# Altium integrated library Linear Technology PMIC-Switching Reg LTC1174-LTC3901.IntLib: 2647 symbols (part 218 of 310)
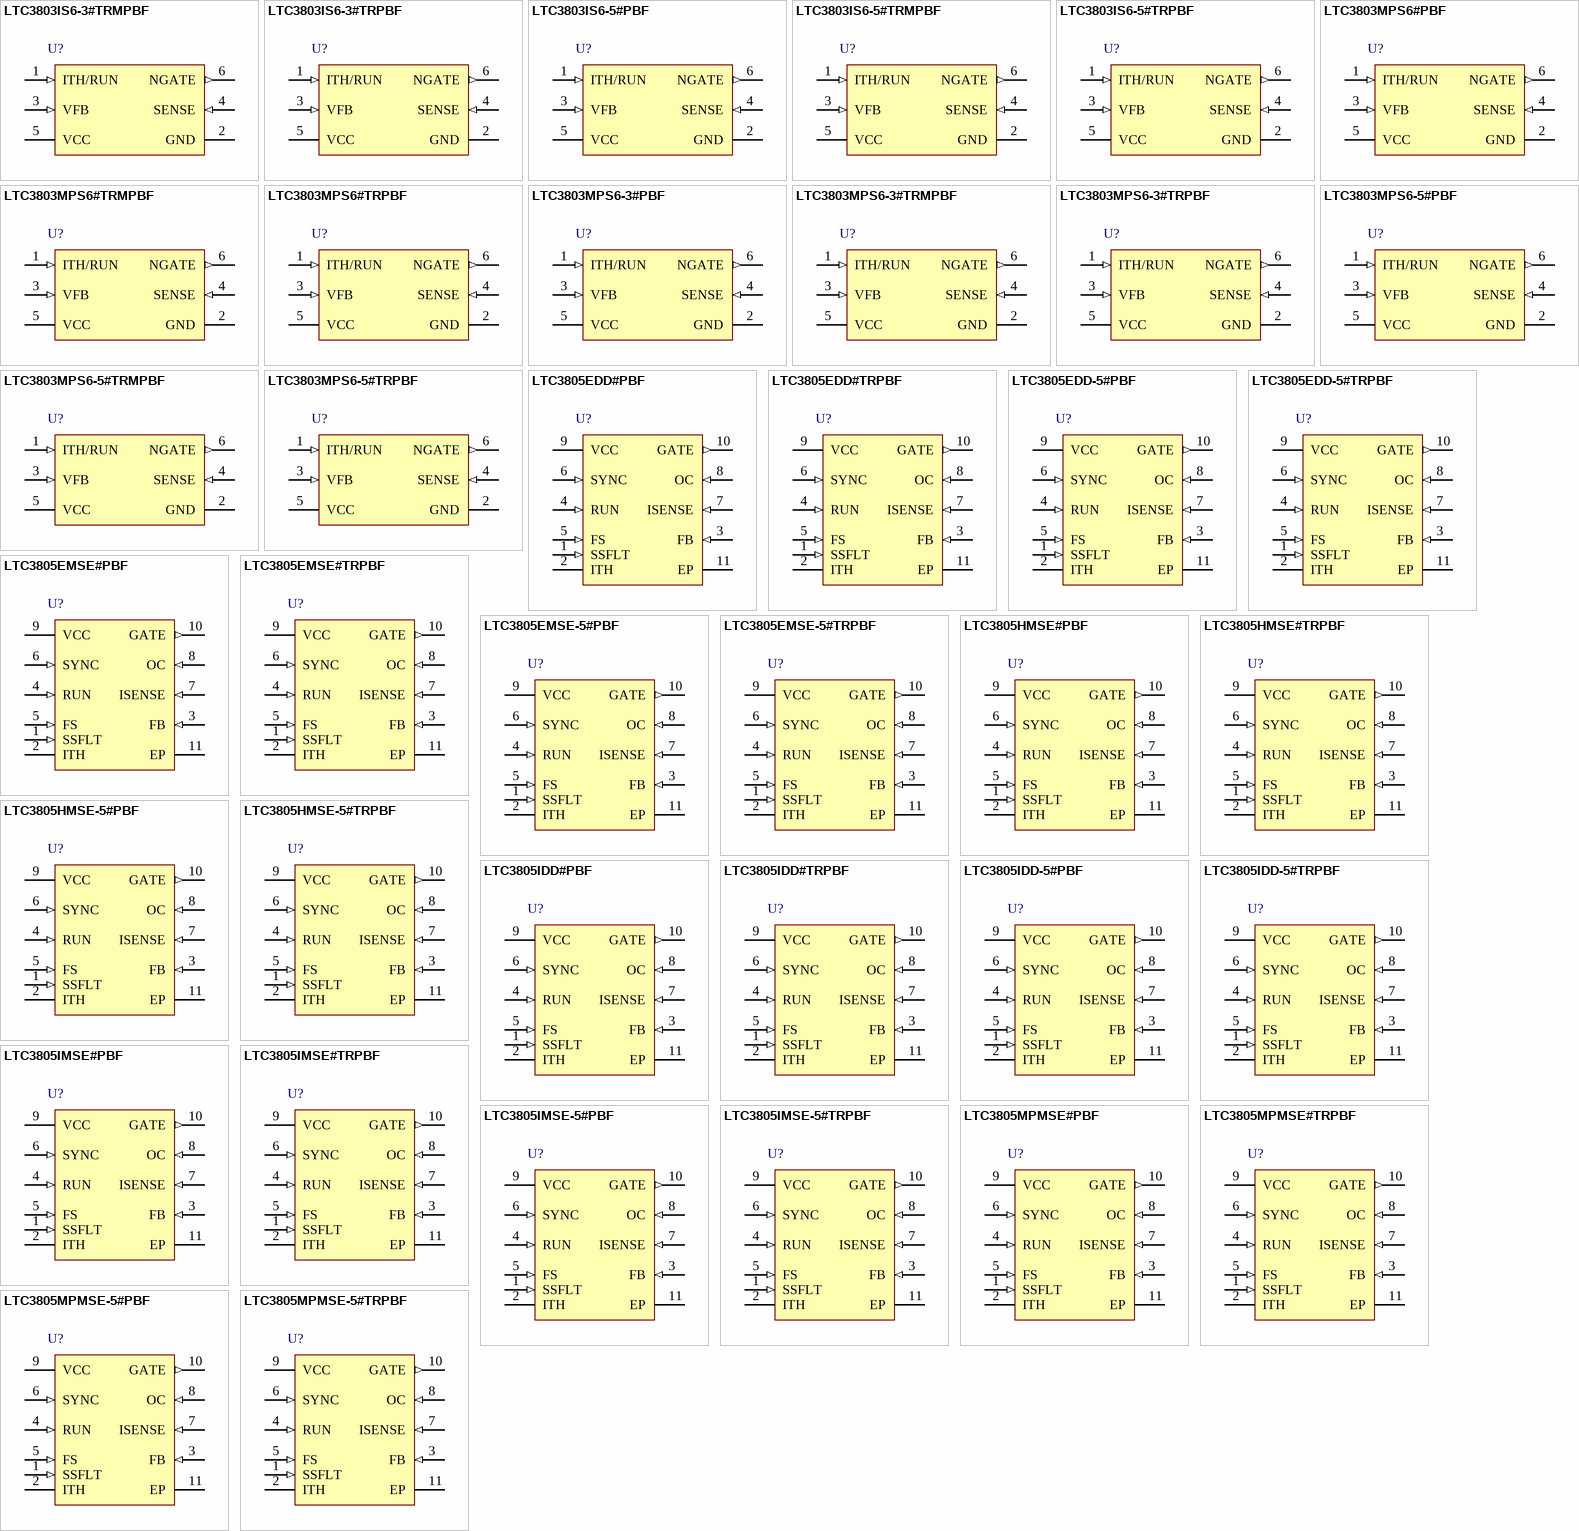
[diagram p243: symbols LTC3803IS6-3#TRMPBF to LTC3805MPMSE-5#TRPBF]

## LTC3805MPMSE-5#TRPBF
designator U?
Adjustable Frequency Current Mode Flyback / Boost / SEPIC DC/DC Controller, 10-pin SOP (MSE-10-EDP), -55 to 150 degC, Pb-Free, Tape and Reel; Manufacturer: Linear Technology; PartNumber: LTC3805MPMSE-5#TRPBF; Number of Outputs: 1; PackageReference: MSE-10; PackageDescription: 10-Pin Plastic MSOP, Exposed Die Pad, Body 3 x 3 mm, Pitch 0.5 mm; Supplier 1: Digi-Key; Supplier Part Number 1: LTC3805MPMSE-5#TRPBF-ND; RoHS: TRUE
footprint LT-MSE-10-EDP-2060x1830TP_N (SOP, 10-Leads, Body 3.1x3.1mm, Pitch 0.5mm, Thermal Pad 2.17x1.94mm, IPC Medium Density)
footprint LT-MSE-10-EDP-2060x1830TP_L (SOP, 10-Leads, Body 3.1x3.1mm, Pitch 0.5mm, Thermal Pad 2.17x1.94mm, IPC High Density)
footprint LT-MSE-10-EDP-2060x1830TP_M (SOP, 10-Leads, Body 3.1x3.1mm, Pitch 0.5mm, Thermal Pad 2.17x1.94mm, IPC Low Density)
pins: 1 SSFLT (in) "Soft-Start Pin. A capacitor placed from this pin to GND (Exposed Pad) controls the rate of rise of converter output voltage during start-up. This capacitor is also used for time out after a fault prior to restart.", 2 ITH "Error Amplifier Compensation Point. Normal operating voltage range is clamped between 0.7V and 1.9V.", 3 FB (in) "Receives the feedback voltage from an external resistor divider across the output.", 4 RUN (in) "An external resistor divider connects this pin to VIN and sets the thresholds for converter operation.", 5 FS (in) "A resistor connected from this pin to ground sets the frequency of operation.", 6 SYNC (in) "Input to synchronize the oscillator to an external source.", 7 ISENSE (in) "Performs two functions: for current mode control, it monitors the switch current, using the voltage across an external current sense resistor. Pin 7 also injects a current ramp that develops slope compensation voltage across (See Datasheet)", 8 OC (in) "Overcurrent Pin. Connect this pin to the external switch current sense resistor. An additional resistor programs the overcurrent trip level.", 9 VCC (power) "Supply Pin. A capacitor must closely decouple VCC to GND (Exposed Pad).", 10 GATE (out) "Gate Drive for the External N-Channel MOSFET. This pin swings from GND to VCC.", 11 EP (power) "Ground. A capacitor must closely decouple GND to VCC (Pin 9). The exposed pad must be soldered to electrical ground on PCB for electrical contact and rated thermal performance."

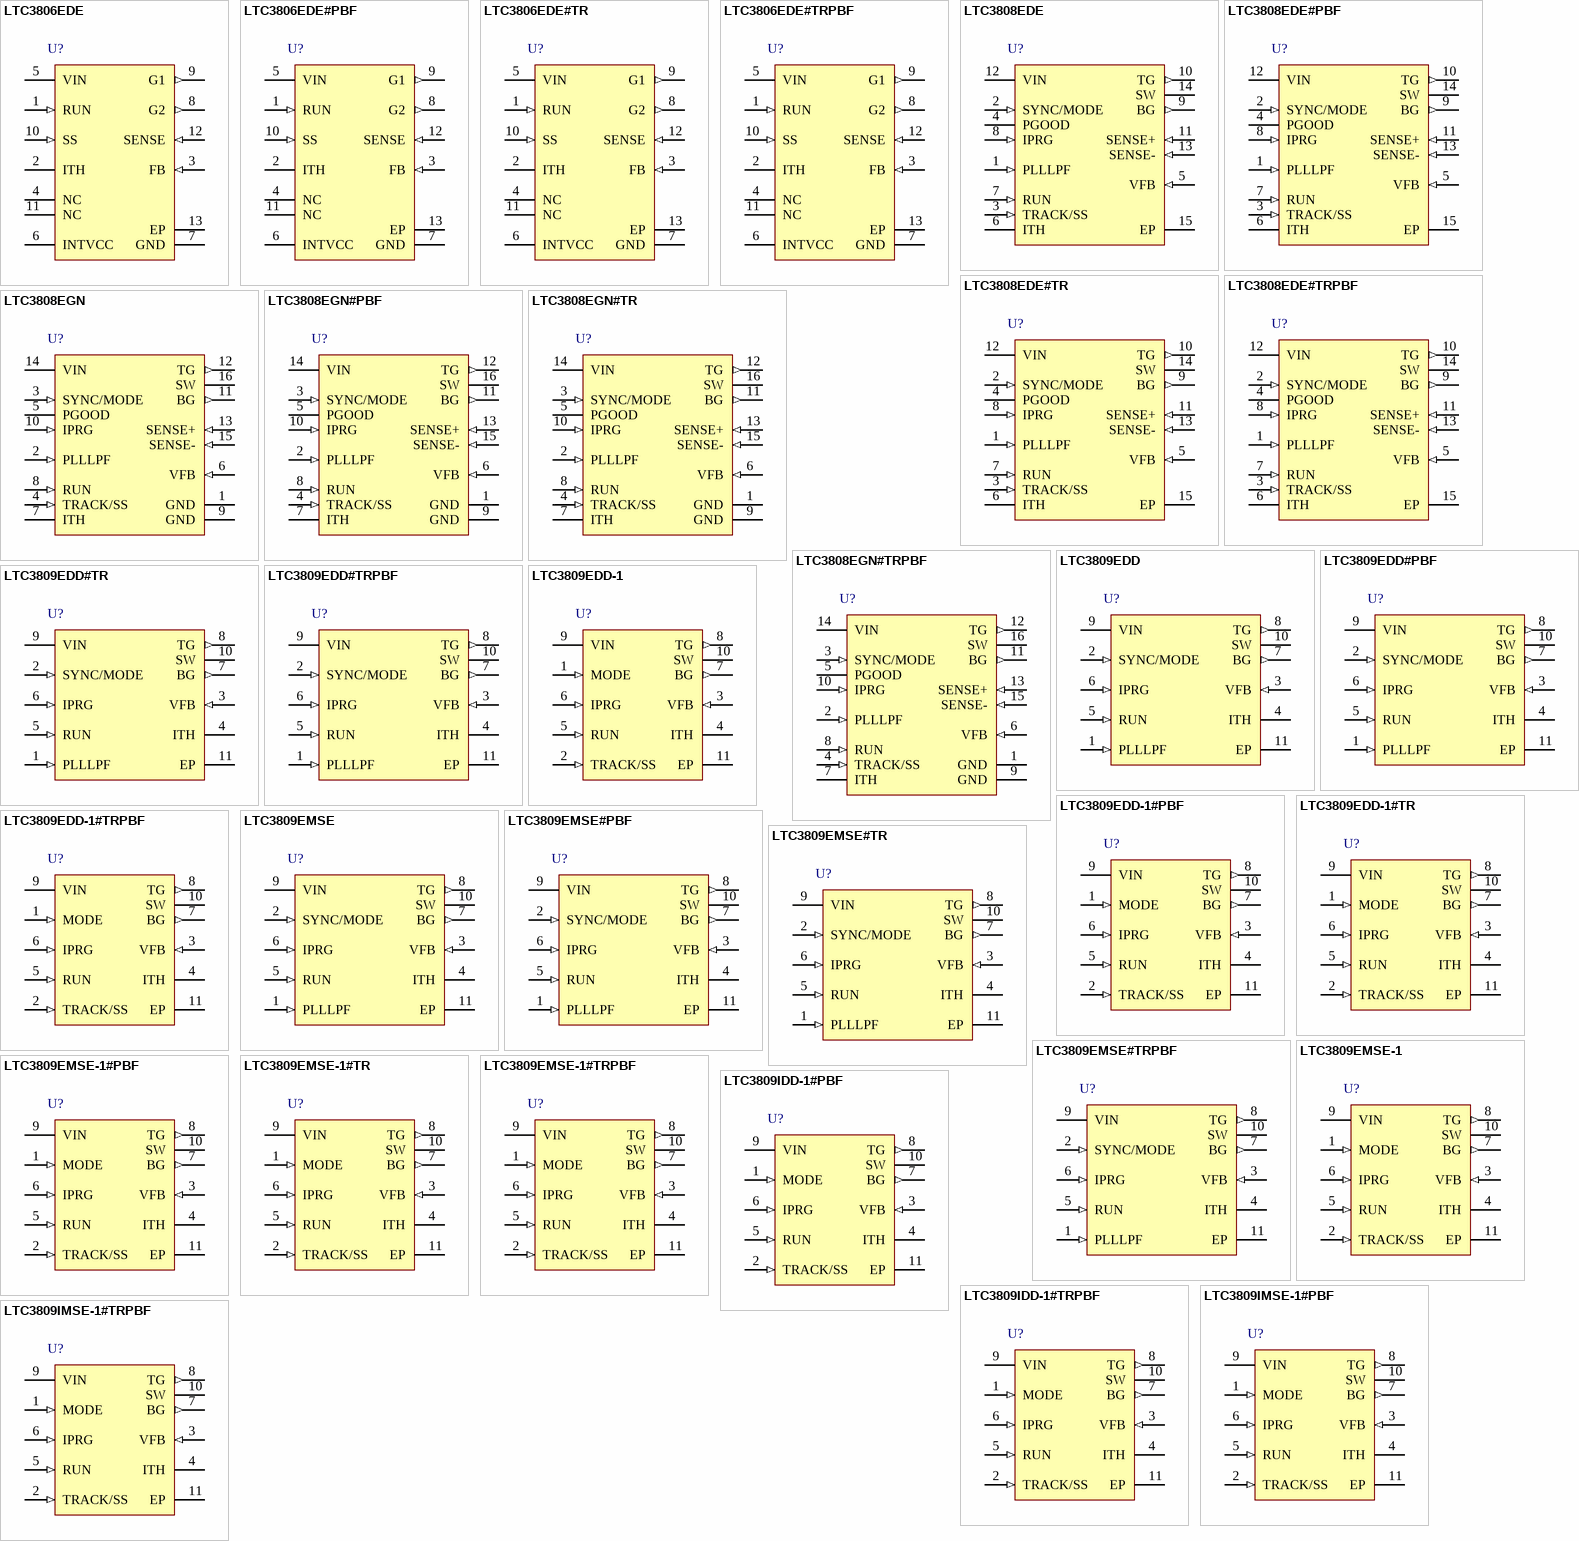
[diagram p77: symbols LTC3806EDE to LTC3809IMSE-1#TRPBF]

## LTC3806EDE
designator U?
Synchronous Flyback DC/DC Controller Min, 12-pin SON (DE-UE-12), -40 to 85 degC; Manufacturer: Linear Technology; PartNumber: LTC3806EDE; Number of Outputs: 1; PackageReference: DE-UE-12; PackageDescription: 12-Pin Plastic DFN, Body 4 x 3 mm, Pitch 0.5 mm; Supplier 1: Digi-Key; Supplier Part Number 1: LTC3806EDE-ND; RoHS: FALSE; Code_JEDEC: MO-229
footprint LT-DE-UE-12_V (SON, 12-Leads, Body 4x3mm, Pitch 0.5mm, Thermal Pad 3.3x1.7mm)
pins: 1 RUN (in) "The RUN pin provides the user with an accurate means for sensing the input voltage and programming the start-up threshold for the converter. The falling RUN pin threshold is nominally 1.14V and the comparator has 91mV of (See Datasheet)", 2 ITH "Error Amplifier Compensation Pin. The current comparator input threshold increases with this control voltage. Nominal voltage range for this pin is 0V to 1.4V.", 3 FB (in) "Receives the feedback voltage from the external resistor divider across the main output. Nominal voltage for this pin in regulation is 1.230V.", 4 NC "Do Not Connect.", 5 VIN (power) "Main Supply Pin. Must be closely decoupled to ground.", 6 INTVCC (power) "The Internal 6.9V Regulator Output. The gate drivers and control circuits are powered from this voltage. Decouple this pin locally to the IC ground with a minimum 4.7uF low ESR ceramic capacitor.", 7 GND (power) "Ground Pins. Exposed pad must be tied to electrical ground.", 8 G2 (out) "Secondary-Side Gate Driver Output. This pin drives the gates of all of the synchronous rectifiers.", 9 G1 (out) "Primary-Side Gate Driver Output.", 10 SS (in) "Soft-Start. A capacitor between this pin and ground sets the rate at which the current comparator input threshold may increase when the IC is initially enabled. Increasing the size of the capacitor slows down the ramp rate (See Datasheet)", 11 NC "Do Not Connect.", 12 SENSE (in) "Current Sense Input for the Control Loop. Connect this pin to the current sense resistor in the source of the primary side power MOSFET. Internal leading edge blanking is provided.", 13 EP (power) "Ground Pins. Exposed pad must be tied to electrical ground."

## LTC3806EDE#PBF
designator U?
Synchronous Flyback DC/DC Controller Min, 12-pin SON (DE-UE-12), -40 to 85 degC, Pb-Free; Manufacturer: Linear Technology; PartNumber: LTC3806EDE#PBF; Number of Outputs: 1; PackageReference: DE-UE-12; PackageDescription: 12-Pin Plastic DFN, Body 4 x 3 mm, Pitch 0.5 mm; Supplier 1: Digi-Key; Supplier Part Number 1: LTC3806EDE#PBF-ND; RoHS: TRUE; Code_JEDEC: MO-229
footprint LT-DE-UE-12_V (SON, 12-Leads, Body 4x3mm, Pitch 0.5mm, Thermal Pad 3.3x1.7mm)
pins: 1 RUN (in) "The RUN pin provides the user with an accurate means for sensing the input voltage and programming the start-up threshold for the converter. The falling RUN pin threshold is nominally 1.14V and the comparator has 91mV of (See Datasheet)", 2 ITH "Error Amplifier Compensation Pin. The current comparator input threshold increases with this control voltage. Nominal voltage range for this pin is 0V to 1.4V.", 3 FB (in) "Receives the feedback voltage from the external resistor divider across the main output. Nominal voltage for this pin in regulation is 1.230V.", 4 NC "Do Not Connect.", 5 VIN (power) "Main Supply Pin. Must be closely decoupled to ground.", 6 INTVCC (power) "The Internal 6.9V Regulator Output. The gate drivers and control circuits are powered from this voltage. Decouple this pin locally to the IC ground with a minimum 4.7uF low ESR ceramic capacitor.", 7 GND (power) "Ground Pins. Exposed pad must be tied to electrical ground.", 8 G2 (out) "Secondary-Side Gate Driver Output. This pin drives the gates of all of the synchronous rectifiers.", 9 G1 (out) "Primary-Side Gate Driver Output.", 10 SS (in) "Soft-Start. A capacitor between this pin and ground sets the rate at which the current comparator input threshold may increase when the IC is initially enabled. Increasing the size of the capacitor slows down the ramp rate (See Datasheet)", 11 NC "Do Not Connect.", 12 SENSE (in) "Current Sense Input for the Control Loop. Connect this pin to the current sense resistor in the source of the primary side power MOSFET. Internal leading edge blanking is provided.", 13 EP (power) "Ground Pins. Exposed pad must be tied to electrical ground."

## LTC3806EDE#TR
designator U?
Synchronous Flyback DC/DC Controller Min, 12-pin SON (DE-UE-12), -40 to 85 degC, Tape and Reel; Manufacturer: Linear Technology; PartNumber: LTC3806EDE#TR; Number of Outputs: 1; PackageReference: DE-UE-12; PackageDescription: 12-Pin Plastic DFN, Body 4 x 3 mm, Pitch 0.5 mm; Supplier 1: Digi-Key; Supplier Part Number 1: LTC3806EDE#TR-ND; RoHS: FALSE; Code_JEDEC: MO-229
footprint LT-DE-UE-12_V (SON, 12-Leads, Body 4x3mm, Pitch 0.5mm, Thermal Pad 3.3x1.7mm)
pins: 1 RUN (in) "The RUN pin provides the user with an accurate means for sensing the input voltage and programming the start-up threshold for the converter. The falling RUN pin threshold is nominally 1.14V and the comparator has 91mV of (See Datasheet)", 2 ITH "Error Amplifier Compensation Pin. The current comparator input threshold increases with this control voltage. Nominal voltage range for this pin is 0V to 1.4V.", 3 FB (in) "Receives the feedback voltage from the external resistor divider across the main output. Nominal voltage for this pin in regulation is 1.230V.", 4 NC "Do Not Connect.", 5 VIN (power) "Main Supply Pin. Must be closely decoupled to ground.", 6 INTVCC (power) "The Internal 6.9V Regulator Output. The gate drivers and control circuits are powered from this voltage. Decouple this pin locally to the IC ground with a minimum 4.7uF low ESR ceramic capacitor.", 7 GND (power) "Ground Pins. Exposed pad must be tied to electrical ground.", 8 G2 (out) "Secondary-Side Gate Driver Output. This pin drives the gates of all of the synchronous rectifiers.", 9 G1 (out) "Primary-Side Gate Driver Output.", 10 SS (in) "Soft-Start. A capacitor between this pin and ground sets the rate at which the current comparator input threshold may increase when the IC is initially enabled. Increasing the size of the capacitor slows down the ramp rate (See Datasheet)", 11 NC "Do Not Connect.", 12 SENSE (in) "Current Sense Input for the Control Loop. Connect this pin to the current sense resistor in the source of the primary side power MOSFET. Internal leading edge blanking is provided.", 13 EP (power) "Ground Pins. Exposed pad must be tied to electrical ground."

## LTC3806EDE#TRPBF
designator U?
Synchronous Flyback DC/DC Controller Min, 12-pin SON (DE-UE-12), -40 to 85 degC, Pb-Free, Tape and Reel; Manufacturer: Linear Technology; PartNumber: LTC3806EDE#TRPBF; Number of Outputs: 1; PackageReference: DE-UE-12; PackageDescription: 12-Pin Plastic DFN, Body 4 x 3 mm, Pitch 0.5 mm; Supplier 1: Digi-Key; Supplier Part Number 1: LTC3806EDE#TRPBF-ND; RoHS: TRUE; Code_JEDEC: MO-229
footprint LT-DE-UE-12_V (SON, 12-Leads, Body 4x3mm, Pitch 0.5mm, Thermal Pad 3.3x1.7mm)
pins: 1 RUN (in) "The RUN pin provides the user with an accurate means for sensing the input voltage and programming the start-up threshold for the converter. The falling RUN pin threshold is nominally 1.14V and the comparator has 91mV of (See Datasheet)", 2 ITH "Error Amplifier Compensation Pin. The current comparator input threshold increases with this control voltage. Nominal voltage range for this pin is 0V to 1.4V.", 3 FB (in) "Receives the feedback voltage from the external resistor divider across the main output. Nominal voltage for this pin in regulation is 1.230V.", 4 NC "Do Not Connect.", 5 VIN (power) "Main Supply Pin. Must be closely decoupled to ground.", 6 INTVCC (power) "The Internal 6.9V Regulator Output. The gate drivers and control circuits are powered from this voltage. Decouple this pin locally to the IC ground with a minimum 4.7uF low ESR ceramic capacitor.", 7 GND (power) "Ground Pins. Exposed pad must be tied to electrical ground.", 8 G2 (out) "Secondary-Side Gate Driver Output. This pin drives the gates of all of the synchronous rectifiers.", 9 G1 (out) "Primary-Side Gate Driver Output.", 10 SS (in) "Soft-Start. A capacitor between this pin and ground sets the rate at which the current comparator input threshold may increase when the IC is initially enabled. Increasing the size of the capacitor slows down the ramp rate (See Datasheet)", 11 NC "Do Not Connect.", 12 SENSE (in) "Current Sense Input for the Control Loop. Connect this pin to the current sense resistor in the source of the primary side power MOSFET. Internal leading edge blanking is provided.", 13 EP (power) "Ground Pins. Exposed pad must be tied to electrical ground."

## LTC3808EDE
designator U?
No Rsense, Low EMI, Synchronous DC/DC Controller with Output Tracking, 14-pin SON (DE-14), -40 to 85 degC; Manufacturer: Linear Technology; PartNumber: LTC3808EDE; Number of Outputs: 1; PackageReference: DE-14; PackageDescription: 14-Pin Plastic DFN, Body 4 x 3 mm, Pitch 0.5 mm; RoHS: FALSE; Code_JEDEC: MO-229
footprint LT-DE-14_V (SON, 14-Leads, Body 4x3mm, Pitch 0.5mm, Thermal Pad 3.3x1.7mm)
pins: 1 PLLLPF (in) "Frequency Set/PLL Lowpass Filter. When synchronizing to an external clock, this pin serves as the low pass filter point for the phase-locked loop. Normally, a series RC is connected between this pin and ground.", 2 SYNC/MODE (in) "This pin performs four functions: 1) auxiliary winding feedback input, 2) external clock synchronization input for phase-locked loop, 3) Burst Mode, pulse skipping or forced continuous mode select, and 4) enable spread (See Datasheet)", 3 TRACK/SS (in) "Tracking Input for the Controller or Optional External Soft-Start Input. This pin allows the start-up of VOUT to “track” the external voltage at this pin using an external resistor divider. Tying this pin to VIN all(See Datasheet)", 4 PGOOD (oc) "Power Good Output Voltage Monitor Open-Drain Logic Output. This pin is pulled to ground when the voltage on the feedback pin VFB is not within +/-13.3% of its nominal set point.", 5 VFB (in) "Feedback Pin. This pin receives the remotely sensed feedback voltage for the controller from an external resistor divider across the output.", 6 ITH "Current Threshold and Error Amplifier Compensation Point. Nominal operating range on this pin is from 0.7V to 2V. The voltage on this pin determines the threshold of the main current comparator.", 7 RUN (in) "Run Control Input. Forcing this pin below 1.1V shuts down the chip. Driving this pin to VIN or releasing this pin enables the chip to start-up either by tracking the external voltage at the TRACK/SS pin or with the (See Datasheet)", 8 IPRG (in) "Three-State Pin to Select Maximum Peak Sense Voltage Threshold. This pin selects the maximum allowed voltage drop between the SENSE+ and SENSE- or SW pins (i.e., the maximum allowed drop across the sense resistor or the (See Datasheet)", 9 BG (out) "Bottom (NMOS) Gate Drive Output. This pin drives the gate of the external N-channel MOSFET. This pin has an output swing from GND to SENSE+.", 10 TG (out) "Top (PMOS) Gate Drive Output. This pin drives the gate of the external P-channel MOSFET. This pin has an output swing from GND to SENSE+.", 11 SENSE+ (in) "Positive Input to Differential Current Comparator. Also powers the gate drivers. Normally connected to the source of the external P-channel MOSFET when the sense resistor is not used. Otherwise, it is connected to the sense (See Datasheet)", 12 VIN (power) "Chip Signal Power Supply. This pin powers the entire chip except for the gate drivers. Externally filtering this pin with a lowpass RC network (e.g., R = 10ohm, C = 1uF) is suggested to minimize noise pickup, especially in (See Datasheet)", 13 SENSE- (in) "Negative Input to Differential Current Comparator. Normally is connected to the SW pin when the sense resistor is not used. When using a current sense resistor, connect the resistor between SENSE+ and SENSE- and connect the (See Datasheet)", 14 SW "Switch Node Connection to Inductor. This pin is also an input to the reverse current comparator", 15 EP (power) "The exposed pad (Pin 15 in DFN package) must be soldered to the PCB ground."

## LTC3808EDE#PBF
designator U?
No Rsense, Low EMI, Synchronous DC/DC Controller with Output Tracking, 14-pin SON (DE-14), -40 to 85 degC, Pb-Free; Manufacturer: Linear Technology; PartNumber: LTC3808EDE#PBF; Number of Outputs: 1; PackageReference: DE-14; PackageDescription: 14-Pin Plastic DFN, Body 4 x 3 mm, Pitch 0.5 mm; Supplier 1: Digi-Key; Supplier Part Number 1: LTC3808EDE#PBF-ND; RoHS: TRUE; Code_JEDEC: MO-229
footprint LT-DE-14_V (SON, 14-Leads, Body 4x3mm, Pitch 0.5mm, Thermal Pad 3.3x1.7mm)
pins: 1 PLLLPF (in) "Frequency Set/PLL Lowpass Filter. When synchronizing to an external clock, this pin serves as the low pass filter point for the phase-locked loop. Normally, a series RC is connected between this pin and ground.", 2 SYNC/MODE (in) "This pin performs four functions: 1) auxiliary winding feedback input, 2) external clock synchronization input for phase-locked loop, 3) Burst Mode, pulse skipping or forced continuous mode select, and 4) enable spread (See Datasheet)", 3 TRACK/SS (in) "Tracking Input for the Controller or Optional External Soft-Start Input. This pin allows the start-up of VOUT to “track” the external voltage at this pin using an external resistor divider. Tying this pin to VIN all(See Datasheet)", 4 PGOOD (oc) "Power Good Output Voltage Monitor Open-Drain Logic Output. This pin is pulled to ground when the voltage on the feedback pin VFB is not within +/-13.3% of its nominal set point.", 5 VFB (in) "Feedback Pin. This pin receives the remotely sensed feedback voltage for the controller from an external resistor divider across the output.", 6 ITH "Current Threshold and Error Amplifier Compensation Point. Nominal operating range on this pin is from 0.7V to 2V. The voltage on this pin determines the threshold of the main current comparator.", 7 RUN (in) "Run Control Input. Forcing this pin below 1.1V shuts down the chip. Driving this pin to VIN or releasing this pin enables the chip to start-up either by tracking the external voltage at the TRACK/SS pin or with the (See Datasheet)", 8 IPRG (in) "Three-State Pin to Select Maximum Peak Sense Voltage Threshold. This pin selects the maximum allowed voltage drop between the SENSE+ and SENSE- or SW pins (i.e., the maximum allowed drop across the sense resistor or the (See Datasheet)", 9 BG (out) "Bottom (NMOS) Gate Drive Output. This pin drives the gate of the external N-channel MOSFET. This pin has an output swing from GND to SENSE+.", 10 TG (out) "Top (PMOS) Gate Drive Output. This pin drives the gate of the external P-channel MOSFET. This pin has an output swing from GND to SENSE+.", 11 SENSE+ (in) "Positive Input to Differential Current Comparator. Also powers the gate drivers. Normally connected to the source of the external P-channel MOSFET when the sense resistor is not used. Otherwise, it is connected to the sense (See Datasheet)", 12 VIN (power) "Chip Signal Power Supply. This pin powers the entire chip except for the gate drivers. Externally filtering this pin with a lowpass RC network (e.g., R = 10ohm, C = 1uF) is suggested to minimize noise pickup, especially in (See Datasheet)", 13 SENSE- (in) "Negative Input to Differential Current Comparator. Normally is connected to the SW pin when the sense resistor is not used. When using a current sense resistor, connect the resistor between SENSE+ and SENSE- and connect the (See Datasheet)", 14 SW "Switch Node Connection to Inductor. This pin is also an input to the reverse current comparator", 15 EP (power) "The exposed pad (Pin 15 in DFN package) must be soldered to the PCB ground."

## LTC3808EDE#TR
designator U?
No Rsense, Low EMI, Synchronous DC/DC Controller with Output Tracking, 14-pin SON (DE-14), -40 to 85 degC, Tape and Reel; Manufacturer: Linear Technology; PartNumber: LTC3808EDE#TR; Number of Outputs: 1; PackageReference: DE-14; PackageDescription: 14-Pin Plastic DFN, Body 4 x 3 mm, Pitch 0.5 mm; RoHS: FALSE; Code_JEDEC: MO-229
footprint LT-DE-14_V (SON, 14-Leads, Body 4x3mm, Pitch 0.5mm, Thermal Pad 3.3x1.7mm)
pins: 1 PLLLPF (in) "Frequency Set/PLL Lowpass Filter. When synchronizing to an external clock, this pin serves as the low pass filter point for the phase-locked loop. Normally, a series RC is connected between this pin and ground.", 2 SYNC/MODE (in) "This pin performs four functions: 1) auxiliary winding feedback input, 2) external clock synchronization input for phase-locked loop, 3) Burst Mode, pulse skipping or forced continuous mode select, and 4) enable spread (See Datasheet)", 3 TRACK/SS (in) "Tracking Input for the Controller or Optional External Soft-Start Input. This pin allows the start-up of VOUT to “track” the external voltage at this pin using an external resistor divider. Tying this pin to VIN all(See Datasheet)", 4 PGOOD (oc) "Power Good Output Voltage Monitor Open-Drain Logic Output. This pin is pulled to ground when the voltage on the feedback pin VFB is not within +/-13.3% of its nominal set point.", 5 VFB (in) "Feedback Pin. This pin receives the remotely sensed feedback voltage for the controller from an external resistor divider across the output.", 6 ITH "Current Threshold and Error Amplifier Compensation Point. Nominal operating range on this pin is from 0.7V to 2V. The voltage on this pin determines the threshold of the main current comparator.", 7 RUN (in) "Run Control Input. Forcing this pin below 1.1V shuts down the chip. Driving this pin to VIN or releasing this pin enables the chip to start-up either by tracking the external voltage at the TRACK/SS pin or with the (See Datasheet)", 8 IPRG (in) "Three-State Pin to Select Maximum Peak Sense Voltage Threshold. This pin selects the maximum allowed voltage drop between the SENSE+ and SENSE- or SW pins (i.e., the maximum allowed drop across the sense resistor or the (See Datasheet)", 9 BG (out) "Bottom (NMOS) Gate Drive Output. This pin drives the gate of the external N-channel MOSFET. This pin has an output swing from GND to SENSE+.", 10 TG (out) "Top (PMOS) Gate Drive Output. This pin drives the gate of the external P-channel MOSFET. This pin has an output swing from GND to SENSE+.", 11 SENSE+ (in) "Positive Input to Differential Current Comparator. Also powers the gate drivers. Normally connected to the source of the external P-channel MOSFET when the sense resistor is not used. Otherwise, it is connected to the sense (See Datasheet)", 12 VIN (power) "Chip Signal Power Supply. This pin powers the entire chip except for the gate drivers. Externally filtering this pin with a lowpass RC network (e.g., R = 10ohm, C = 1uF) is suggested to minimize noise pickup, especially in (See Datasheet)", 13 SENSE- (in) "Negative Input to Differential Current Comparator. Normally is connected to the SW pin when the sense resistor is not used. When using a current sense resistor, connect the resistor between SENSE+ and SENSE- and connect the (See Datasheet)", 14 SW "Switch Node Connection to Inductor. This pin is also an input to the reverse current comparator", 15 EP (power) "The exposed pad (Pin 15 in DFN package) must be soldered to the PCB ground."

## LTC3808EDE#TRPBF
designator U?
No Rsense, Low EMI, Synchronous DC/DC Controller with Output Tracking, 14-pin SON (DE-14), -40 to 85 degC, Pb-Free, Tape and Reel; Manufacturer: Linear Technology; PartNumber: LTC3808EDE#TRPBF; Number of Outputs: 1; PackageReference: DE-14; PackageDescription: 14-Pin Plastic DFN, Body 4 x 3 mm, Pitch 0.5 mm; Supplier 1: Digi-Key; Supplier Part Number 1: LTC3808EDE#TRPBF-ND; RoHS: TRUE; Code_JEDEC: MO-229
footprint LT-DE-14_V (SON, 14-Leads, Body 4x3mm, Pitch 0.5mm, Thermal Pad 3.3x1.7mm)
pins: 1 PLLLPF (in) "Frequency Set/PLL Lowpass Filter. When synchronizing to an external clock, this pin serves as the low pass filter point for the phase-locked loop. Normally, a series RC is connected between this pin and ground.", 2 SYNC/MODE (in) "This pin performs four functions: 1) auxiliary winding feedback input, 2) external clock synchronization input for phase-locked loop, 3) Burst Mode, pulse skipping or forced continuous mode select, and 4) enable spread (See Datasheet)", 3 TRACK/SS (in) "Tracking Input for the Controller or Optional External Soft-Start Input. This pin allows the start-up of VOUT to “track” the external voltage at this pin using an external resistor divider. Tying this pin to VIN all(See Datasheet)", 4 PGOOD (oc) "Power Good Output Voltage Monitor Open-Drain Logic Output. This pin is pulled to ground when the voltage on the feedback pin VFB is not within +/-13.3% of its nominal set point.", 5 VFB (in) "Feedback Pin. This pin receives the remotely sensed feedback voltage for the controller from an external resistor divider across the output.", 6 ITH "Current Threshold and Error Amplifier Compensation Point. Nominal operating range on this pin is from 0.7V to 2V. The voltage on this pin determines the threshold of the main current comparator.", 7 RUN (in) "Run Control Input. Forcing this pin below 1.1V shuts down the chip. Driving this pin to VIN or releasing this pin enables the chip to start-up either by tracking the external voltage at the TRACK/SS pin or with the (See Datasheet)", 8 IPRG (in) "Three-State Pin to Select Maximum Peak Sense Voltage Threshold. This pin selects the maximum allowed voltage drop between the SENSE+ and SENSE- or SW pins (i.e., the maximum allowed drop across the sense resistor or the (See Datasheet)", 9 BG (out) "Bottom (NMOS) Gate Drive Output. This pin drives the gate of the external N-channel MOSFET. This pin has an output swing from GND to SENSE+.", 10 TG (out) "Top (PMOS) Gate Drive Output. This pin drives the gate of the external P-channel MOSFET. This pin has an output swing from GND to SENSE+.", 11 SENSE+ (in) "Positive Input to Differential Current Comparator. Also powers the gate drivers. Normally connected to the source of the external P-channel MOSFET when the sense resistor is not used. Otherwise, it is connected to the sense (See Datasheet)", 12 VIN (power) "Chip Signal Power Supply. This pin powers the entire chip except for the gate drivers. Externally filtering this pin with a lowpass RC network (e.g., R = 10ohm, C = 1uF) is suggested to minimize noise pickup, especially in (See Datasheet)", 13 SENSE- (in) "Negative Input to Differential Current Comparator. Normally is connected to the SW pin when the sense resistor is not used. When using a current sense resistor, connect the resistor between SENSE+ and SENSE- and connect the (See Datasheet)", 14 SW "Switch Node Connection to Inductor. This pin is also an input to the reverse current comparator", 15 EP (power) "The exposed pad (Pin 15 in DFN package) must be soldered to the PCB ground."

## LTC3808EGN
designator U?
No Rsense, Low EMI, Synchronous DC/DC Controller with Output Tracking, 16-pin SOP (GN-16), -40 to 85 degC; Manufacturer: Linear Technology; PartNumber: LTC3808EGN; Number of Outputs: 1; PackageReference: GN-16; PackageDescription: 16-Pin Plastic SSOP, Body 4.9 x 3.9 mm, Pitch 0.635 mm; RoHS: FALSE
footprint LT-GN-16_N (SOP, 16-Leads, Body 5x4mm, Pitch 0.635mm, IPC Medium Density)
footprint LT-GN-16_L (SOP, 16-Leads, Body 5x4mm, Pitch 0.635mm, IPC High Density)
footprint LT-GN-16_M (SOP, 16-Leads, Body 5x4mm, Pitch 0.635mm, IPC Low Density)
pins: 1 GND (power) "Ground connection for internal circuits, the gate drivers and the negative input to the reverse current comparator.", 2 PLLLPF (in) "Frequency Set/PLL Lowpass Filter. When synchronizing to an external clock, this pin serves as the low pass filter point for the phase-locked loop. Normally, a series RC is connected between this pin and ground.", 3 SYNC/MODE (in) "This pin performs four functions: 1) auxiliary winding feedback input, 2) external clock synchronization input for phase-locked loop, 3) Burst Mode, pulse skipping or forced continuous mode select, and 4) enable spread (See Datasheet)", 4 TRACK/SS (in) "Tracking Input for the Controller or Optional External Soft-Start Input. This pin allows the start-up of VOUT to “track” the external voltage at this pin using an external resistor divider. Tying this pin to VIN all(See Datasheet)", 5 PGOOD (oc) "Power Good Output Voltage Monitor Open-Drain Logic Output. This pin is pulled to ground when the voltage on the feedback pin VFB is not within +/-13.3% of its nominal set point.", 6 VFB (in) "Feedback Pin. This pin receives the remotely sensed feedback voltage for the controller from an external resistor divider across the output.", 7 ITH "Current Threshold and Error Amplifier Compensation Point. Nominal operating range on this pin is from 0.7V to 2V. The voltage on this pin determines the threshold of the main current comparator.", 8 RUN (in) "Run Control Input. Forcing this pin below 1.1V shuts down the chip. Driving this pin to VIN or releasing this pin enables the chip to start-up either by tracking the external voltage at the TRACK/SS pin or with the (See Datasheet)", 9 GND (power) "Ground connection for internal circuits, the gate drivers and the negative input to the reverse current comparator.", 10 IPRG (in) "Three-State Pin to Select Maximum Peak Sense Voltage Threshold. This pin selects the maximum allowed voltage drop between the SENSE+ and SENSE- or SW pins (i.e., the maximum allowed drop across the sense resistor or the (See Datasheet)", 11 BG (out) "Bottom (NMOS) Gate Drive Output. This pin drives the gate of the external N-channel MOSFET. This pin has an output swing from GND to SENSE+.", 12 TG (out) "Top (PMOS) Gate Drive Output. This pin drives the gate of the external P-channel MOSFET. This pin has an output swing from GND to SENSE+.", 13 SENSE+ (in) "Positive Input to Differential Current Comparator. Also powers the gate drivers. Normally connected to the source of the external P-channel MOSFET when the sense resistor is not used. Otherwise, it is connected to the sense (See Datasheet)", 14 VIN (power) "Chip Signal Power Supply. This pin powers the entire chip except for the gate drivers. Externally filtering this pin with a lowpass RC network (e.g., R = 10ohm, C = 1uF) is suggested to minimize noise pickup, especially in (See Datasheet)", 15 SENSE- (in) "Negative Input to Differential Current Comparator. Normally is connected to the SW pin when the sense resistor is not used. When using a current sense resistor, connect the resistor between SENSE+ and SENSE- and connect the (See Datasheet)", 16 SW "Switch Node Connection to Inductor. This pin is also an input to the reverse current comparator"

## LTC3808EGN#PBF
designator U?
No Rsense, Low EMI, Synchronous DC/DC Controller with Output Tracking, 16-pin SOP (GN-16), -40 to 85 degC, Pb-Free; Manufacturer: Linear Technology; PartNumber: LTC3808EGN#PBF; Number of Outputs: 1; PackageReference: GN-16; PackageDescription: 16-Pin Plastic SSOP, Body 4.9 x 3.9 mm, Pitch 0.635 mm; Supplier 1: Digi-Key; Supplier Part Number 1: LTC3808EGN#PBF-ND; RoHS: TRUE
footprint LT-GN-16_N (SOP, 16-Leads, Body 5x4mm, Pitch 0.635mm, IPC Medium Density)
footprint LT-GN-16_L (SOP, 16-Leads, Body 5x4mm, Pitch 0.635mm, IPC High Density)
footprint LT-GN-16_M (SOP, 16-Leads, Body 5x4mm, Pitch 0.635mm, IPC Low Density)
pins: 1 GND (power) "Ground connection for internal circuits, the gate drivers and the negative input to the reverse current comparator.", 2 PLLLPF (in) "Frequency Set/PLL Lowpass Filter. When synchronizing to an external clock, this pin serves as the low pass filter point for the phase-locked loop. Normally, a series RC is connected between this pin and ground.", 3 SYNC/MODE (in) "This pin performs four functions: 1) auxiliary winding feedback input, 2) external clock synchronization input for phase-locked loop, 3) Burst Mode, pulse skipping or forced continuous mode select, and 4) enable spread (See Datasheet)", 4 TRACK/SS (in) "Tracking Input for the Controller or Optional External Soft-Start Input. This pin allows the start-up of VOUT to “track” the external voltage at this pin using an external resistor divider. Tying this pin to VIN all(See Datasheet)", 5 PGOOD (oc) "Power Good Output Voltage Monitor Open-Drain Logic Output. This pin is pulled to ground when the voltage on the feedback pin VFB is not within +/-13.3% of its nominal set point.", 6 VFB (in) "Feedback Pin. This pin receives the remotely sensed feedback voltage for the controller from an external resistor divider across the output.", 7 ITH "Current Threshold and Error Amplifier Compensation Point. Nominal operating range on this pin is from 0.7V to 2V. The voltage on this pin determines the threshold of the main current comparator.", 8 RUN (in) "Run Control Input. Forcing this pin below 1.1V shuts down the chip. Driving this pin to VIN or releasing this pin enables the chip to start-up either by tracking the external voltage at the TRACK/SS pin or with the (See Datasheet)", 9 GND (power) "Ground connection for internal circuits, the gate drivers and the negative input to the reverse current comparator.", 10 IPRG (in) "Three-State Pin to Select Maximum Peak Sense Voltage Threshold. This pin selects the maximum allowed voltage drop between the SENSE+ and SENSE- or SW pins (i.e., the maximum allowed drop across the sense resistor or the (See Datasheet)", 11 BG (out) "Bottom (NMOS) Gate Drive Output. This pin drives the gate of the external N-channel MOSFET. This pin has an output swing from GND to SENSE+.", 12 TG (out) "Top (PMOS) Gate Drive Output. This pin drives the gate of the external P-channel MOSFET. This pin has an output swing from GND to SENSE+.", 13 SENSE+ (in) "Positive Input to Differential Current Comparator. Also powers the gate drivers. Normally connected to the source of the external P-channel MOSFET when the sense resistor is not used. Otherwise, it is connected to the sense (See Datasheet)", 14 VIN (power) "Chip Signal Power Supply. This pin powers the entire chip except for the gate drivers. Externally filtering this pin with a lowpass RC network (e.g., R = 10ohm, C = 1uF) is suggested to minimize noise pickup, especially in (See Datasheet)", 15 SENSE- (in) "Negative Input to Differential Current Comparator. Normally is connected to the SW pin when the sense resistor is not used. When using a current sense resistor, connect the resistor between SENSE+ and SENSE- and connect the (See Datasheet)", 16 SW "Switch Node Connection to Inductor. This pin is also an input to the reverse current comparator"

## LTC3808EGN#TR
designator U?
No Rsense, Low EMI, Synchronous DC/DC Controller with Output Tracking, 16-pin SOP (GN-16), -40 to 85 degC, Tape and Reel; Manufacturer: Linear Technology; PartNumber: LTC3808EGN#TR; Number of Outputs: 1; PackageReference: GN-16; PackageDescription: 16-Pin Plastic SSOP, Body 4.9 x 3.9 mm, Pitch 0.635 mm; RoHS: FALSE
footprint LT-GN-16_N (SOP, 16-Leads, Body 5x4mm, Pitch 0.635mm, IPC Medium Density)
footprint LT-GN-16_L (SOP, 16-Leads, Body 5x4mm, Pitch 0.635mm, IPC High Density)
footprint LT-GN-16_M (SOP, 16-Leads, Body 5x4mm, Pitch 0.635mm, IPC Low Density)
pins: 1 GND (power) "Ground connection for internal circuits, the gate drivers and the negative input to the reverse current comparator.", 2 PLLLPF (in) "Frequency Set/PLL Lowpass Filter. When synchronizing to an external clock, this pin serves as the low pass filter point for the phase-locked loop. Normally, a series RC is connected between this pin and ground.", 3 SYNC/MODE (in) "This pin performs four functions: 1) auxiliary winding feedback input, 2) external clock synchronization input for phase-locked loop, 3) Burst Mode, pulse skipping or forced continuous mode select, and 4) enable spread (See Datasheet)", 4 TRACK/SS (in) "Tracking Input for the Controller or Optional External Soft-Start Input. This pin allows the start-up of VOUT to “track” the external voltage at this pin using an external resistor divider. Tying this pin to VIN all(See Datasheet)", 5 PGOOD (oc) "Power Good Output Voltage Monitor Open-Drain Logic Output. This pin is pulled to ground when the voltage on the feedback pin VFB is not within +/-13.3% of its nominal set point.", 6 VFB (in) "Feedback Pin. This pin receives the remotely sensed feedback voltage for the controller from an external resistor divider across the output.", 7 ITH "Current Threshold and Error Amplifier Compensation Point. Nominal operating range on this pin is from 0.7V to 2V. The voltage on this pin determines the threshold of the main current comparator.", 8 RUN (in) "Run Control Input. Forcing this pin below 1.1V shuts down the chip. Driving this pin to VIN or releasing this pin enables the chip to start-up either by tracking the external voltage at the TRACK/SS pin or with the (See Datasheet)", 9 GND (power) "Ground connection for internal circuits, the gate drivers and the negative input to the reverse current comparator.", 10 IPRG (in) "Three-State Pin to Select Maximum Peak Sense Voltage Threshold. This pin selects the maximum allowed voltage drop between the SENSE+ and SENSE- or SW pins (i.e., the maximum allowed drop across the sense resistor or the (See Datasheet)", 11 BG (out) "Bottom (NMOS) Gate Drive Output. This pin drives the gate of the external N-channel MOSFET. This pin has an output swing from GND to SENSE+.", 12 TG (out) "Top (PMOS) Gate Drive Output. This pin drives the gate of the external P-channel MOSFET. This pin has an output swing from GND to SENSE+.", 13 SENSE+ (in) "Positive Input to Differential Current Comparator. Also powers the gate drivers. Normally connected to the source of the external P-channel MOSFET when the sense resistor is not used. Otherwise, it is connected to the sense (See Datasheet)", 14 VIN (power) "Chip Signal Power Supply. This pin powers the entire chip except for the gate drivers. Externally filtering this pin with a lowpass RC network (e.g., R = 10ohm, C = 1uF) is suggested to minimize noise pickup, especially in (See Datasheet)", 15 SENSE- (in) "Negative Input to Differential Current Comparator. Normally is connected to the SW pin when the sense resistor is not used. When using a current sense resistor, connect the resistor between SENSE+ and SENSE- and connect the (See Datasheet)", 16 SW "Switch Node Connection to Inductor. This pin is also an input to the reverse current comparator"

## LTC3808EGN#TRPBF
designator U?
No Rsense, Low EMI, Synchronous DC/DC Controller with Output Tracking, 16-pin SOP (GN-16), -40 to 85 degC, Pb-Free, Tape and Reel; Manufacturer: Linear Technology; PartNumber: LTC3808EGN#TRPBF; Number of Outputs: 1; PackageReference: GN-16; PackageDescription: 16-Pin Plastic SSOP, Body 4.9 x 3.9 mm, Pitch 0.635 mm; Supplier 1: Digi-Key; Supplier Part Number 1: LTC3808EGN#TRPBF-ND; RoHS: TRUE
footprint LT-GN-16_N (SOP, 16-Leads, Body 5x4mm, Pitch 0.635mm, IPC Medium Density)
footprint LT-GN-16_L (SOP, 16-Leads, Body 5x4mm, Pitch 0.635mm, IPC High Density)
footprint LT-GN-16_M (SOP, 16-Leads, Body 5x4mm, Pitch 0.635mm, IPC Low Density)
pins: 1 GND (power) "Ground connection for internal circuits, the gate drivers and the negative input to the reverse current comparator.", 2 PLLLPF (in) "Frequency Set/PLL Lowpass Filter. When synchronizing to an external clock, this pin serves as the low pass filter point for the phase-locked loop. Normally, a series RC is connected between this pin and ground.", 3 SYNC/MODE (in) "This pin performs four functions: 1) auxiliary winding feedback input, 2) external clock synchronization input for phase-locked loop, 3) Burst Mode, pulse skipping or forced continuous mode select, and 4) enable spread (See Datasheet)", 4 TRACK/SS (in) "Tracking Input for the Controller or Optional External Soft-Start Input. This pin allows the start-up of VOUT to “track” the external voltage at this pin using an external resistor divider. Tying this pin to VIN all(See Datasheet)", 5 PGOOD (oc) "Power Good Output Voltage Monitor Open-Drain Logic Output. This pin is pulled to ground when the voltage on the feedback pin VFB is not within +/-13.3% of its nominal set point.", 6 VFB (in) "Feedback Pin. This pin receives the remotely sensed feedback voltage for the controller from an external resistor divider across the output.", 7 ITH "Current Threshold and Error Amplifier Compensation Point. Nominal operating range on this pin is from 0.7V to 2V. The voltage on this pin determines the threshold of the main current comparator.", 8 RUN (in) "Run Control Input. Forcing this pin below 1.1V shuts down the chip. Driving this pin to VIN or releasing this pin enables the chip to start-up either by tracking the external voltage at the TRACK/SS pin or with the (See Datasheet)", 9 GND (power) "Ground connection for internal circuits, the gate drivers and the negative input to the reverse current comparator.", 10 IPRG (in) "Three-State Pin to Select Maximum Peak Sense Voltage Threshold. This pin selects the maximum allowed voltage drop between the SENSE+ and SENSE- or SW pins (i.e., the maximum allowed drop across the sense resistor or the (See Datasheet)", 11 BG (out) "Bottom (NMOS) Gate Drive Output. This pin drives the gate of the external N-channel MOSFET. This pin has an output swing from GND to SENSE+.", 12 TG (out) "Top (PMOS) Gate Drive Output. This pin drives the gate of the external P-channel MOSFET. This pin has an output swing from GND to SENSE+.", 13 SENSE+ (in) "Positive Input to Differential Current Comparator. Also powers the gate drivers. Normally connected to the source of the external P-channel MOSFET when the sense resistor is not used. Otherwise, it is connected to the sense (See Datasheet)", 14 VIN (power) "Chip Signal Power Supply. This pin powers the entire chip except for the gate drivers. Externally filtering this pin with a lowpass RC network (e.g., R = 10ohm, C = 1uF) is suggested to minimize noise pickup, especially in (See Datasheet)", 15 SENSE- (in) "Negative Input to Differential Current Comparator. Normally is connected to the SW pin when the sense resistor is not used. When using a current sense resistor, connect the resistor between SENSE+ and SENSE- and connect the (See Datasheet)", 16 SW "Switch Node Connection to Inductor. This pin is also an input to the reverse current comparator"

## LTC3809EDD
designator U?
No Rsense, Low EMI, Synchronous DC/DC Controller, 10-pin SON (DD-10), -40 to 85 degC; Manufacturer: Linear Technology; PartNumber: LTC3809EDD; Number of Outputs: 1; PackageReference: DD-10; PackageDescription: 10-Pin Plastic DFN, Body 3 x 3 mm, Pitch 0.5 mm; Supplier 1: Digi-Key; Supplier Part Number 1: LTC3809EDD-ND; RoHS: FALSE; Code_JEDEC: MO-229
footprint LT-DD-10_V (SON, 10-Leads, Body 3x3mm, Pitch 0.5mm, Thermal Pad 2.38x1.65mm)
pins: 1 PLLLPF (in) "Frequency Set/PLL Lowpass Filter. When synchronizing to an external clock, this pin serves as the lowpass filter point for the phase-locked loop. Normally, a series RC is connected between this pin and ground. When not (See Datasheet)", 2 SYNC/MODE (in), 3 VFB (in) "Feedback Pin. This pin receives the remotely sensed feedback voltage for the controller from an external resistor divider across the output.", 4 ITH "Current Threshold and Error Amplifier Compensation Point. Nominal operating range on this pin is from 0.7V to 2V. The voltage on this pin determines the threshold of the main current comparator.", 5 RUN (in) "Run Control Input. Forcing this pin below 1.1V shuts down the chip. Driving this pin to VIN or releasing this pin enables the chip to start-up with the internal soft-start.", 6 IPRG (in) "Three-State Pin to Select Maximum Peak Sense Voltage Threshold. This pin selects the maximum allowed voltage drop between the VIN and SW pins (i.e., the maximum allowed drop across the external P-channel MOSFET). Tie to VIN, (See Datasheet)", 7 BG (out) "Bottom (NMOS) Gate Drive Output. This pin drives the gate of the external N-channel MOSFET. This pin has an output swing from PGND to VIN.", 8 TG (out) "Top (PMOS) Gate Drive Output. This pin drives the gate of the external P-channel MOSFET. This pin has an output swing from PGND to VIN.", 9 VIN (power) "Chip Signal Power Supply. This pin powers the entire chip, the gate drivers and serves as the positive input to the differential current comparator.", 10 SW "Switch Node Connection to Inductor. This pin is also the negative input to the differential current comparator and an input to the reverse current comparator. Normally this pin is connected to the drain of the external (See Datasheet)", 11 EP (power) "Exposed Pad. The Exposed Pad is ground and must be soldered to the PCB ground for electrical contact and optimum thermal performance."

## LTC3809EDD#PBF
designator U?
No Rsense, Low EMI, Synchronous DC/DC Controller, 10-pin SON (DD-10), -40 to 85 degC, Pb-Free; Manufacturer: Linear Technology; PartNumber: LTC3809EDD#PBF; Number of Outputs: 1; PackageReference: DD-10; PackageDescription: 10-Pin Plastic DFN, Body 3 x 3 mm, Pitch 0.5 mm; Supplier 1: Digi-Key; Supplier Part Number 1: LTC3809EDD#PBF-ND; RoHS: TRUE; Code_JEDEC: MO-229
footprint LT-DD-10_V (SON, 10-Leads, Body 3x3mm, Pitch 0.5mm, Thermal Pad 2.38x1.65mm)
pins: 1 PLLLPF (in) "Frequency Set/PLL Lowpass Filter. When synchronizing to an external clock, this pin serves as the lowpass filter point for the phase-locked loop. Normally, a series RC is connected between this pin and ground. When not (See Datasheet)", 2 SYNC/MODE (in), 3 VFB (in) "Feedback Pin. This pin receives the remotely sensed feedback voltage for the controller from an external resistor divider across the output.", 4 ITH "Current Threshold and Error Amplifier Compensation Point. Nominal operating range on this pin is from 0.7V to 2V. The voltage on this pin determines the threshold of the main current comparator.", 5 RUN (in) "Run Control Input. Forcing this pin below 1.1V shuts down the chip. Driving this pin to VIN or releasing this pin enables the chip to start-up with the internal soft-start.", 6 IPRG (in) "Three-State Pin to Select Maximum Peak Sense Voltage Threshold. This pin selects the maximum allowed voltage drop between the VIN and SW pins (i.e., the maximum allowed drop across the external P-channel MOSFET). Tie to VIN, (See Datasheet)", 7 BG (out) "Bottom (NMOS) Gate Drive Output. This pin drives the gate of the external N-channel MOSFET. This pin has an output swing from PGND to VIN.", 8 TG (out) "Top (PMOS) Gate Drive Output. This pin drives the gate of the external P-channel MOSFET. This pin has an output swing from PGND to VIN.", 9 VIN (power) "Chip Signal Power Supply. This pin powers the entire chip, the gate drivers and serves as the positive input to the differential current comparator.", 10 SW "Switch Node Connection to Inductor. This pin is also the negative input to the differential current comparator and an input to the reverse current comparator. Normally this pin is connected to the drain of the external (See Datasheet)", 11 EP (power) "Exposed Pad. The Exposed Pad is ground and must be soldered to the PCB ground for electrical contact and optimum thermal performance."

## LTC3809EDD#TR
designator U?
No Rsense, Low EMI, Synchronous DC/DC Controller, 10-pin SON (DD-10), -40 to 85 degC, Tape and Reel; Manufacturer: Linear Technology; PartNumber: LTC3809EDD#TR; Number of Outputs: 1; PackageReference: DD-10; PackageDescription: 10-Pin Plastic DFN, Body 3 x 3 mm, Pitch 0.5 mm; Supplier 1: Digi-Key; Supplier Part Number 1: LTC3809EDD#TR-ND; RoHS: FALSE; Code_JEDEC: MO-229
footprint LT-DD-10_V (SON, 10-Leads, Body 3x3mm, Pitch 0.5mm, Thermal Pad 2.38x1.65mm)
pins: 1 PLLLPF (in) "Frequency Set/PLL Lowpass Filter. When synchronizing to an external clock, this pin serves as the lowpass filter point for the phase-locked loop. Normally, a series RC is connected between this pin and ground. When not (See Datasheet)", 2 SYNC/MODE (in), 3 VFB (in) "Feedback Pin. This pin receives the remotely sensed feedback voltage for the controller from an external resistor divider across the output.", 4 ITH "Current Threshold and Error Amplifier Compensation Point. Nominal operating range on this pin is from 0.7V to 2V. The voltage on this pin determines the threshold of the main current comparator.", 5 RUN (in) "Run Control Input. Forcing this pin below 1.1V shuts down the chip. Driving this pin to VIN or releasing this pin enables the chip to start-up with the internal soft-start.", 6 IPRG (in) "Three-State Pin to Select Maximum Peak Sense Voltage Threshold. This pin selects the maximum allowed voltage drop between the VIN and SW pins (i.e., the maximum allowed drop across the external P-channel MOSFET). Tie to VIN, (See Datasheet)", 7 BG (out) "Bottom (NMOS) Gate Drive Output. This pin drives the gate of the external N-channel MOSFET. This pin has an output swing from PGND to VIN.", 8 TG (out) "Top (PMOS) Gate Drive Output. This pin drives the gate of the external P-channel MOSFET. This pin has an output swing from PGND to VIN.", 9 VIN (power) "Chip Signal Power Supply. This pin powers the entire chip, the gate drivers and serves as the positive input to the differential current comparator.", 10 SW "Switch Node Connection to Inductor. This pin is also the negative input to the differential current comparator and an input to the reverse current comparator. Normally this pin is connected to the drain of the external (See Datasheet)", 11 EP (power) "Exposed Pad. The Exposed Pad is ground and must be soldered to the PCB ground for electrical contact and optimum thermal performance."